# Altium footprint library Odrive.PcbLib: 40 footprints (part 2 of 3)
Each footprint in its own frame and in the unit in brackets; x right, y up, seen from the top. Pads: shape width x height; smd on the part's side, far side on the other; paste and mask are expansions set on the pad; w line width, h text height; cw(c..) or ccw(c..) is an arc to the next point about the centre after c.
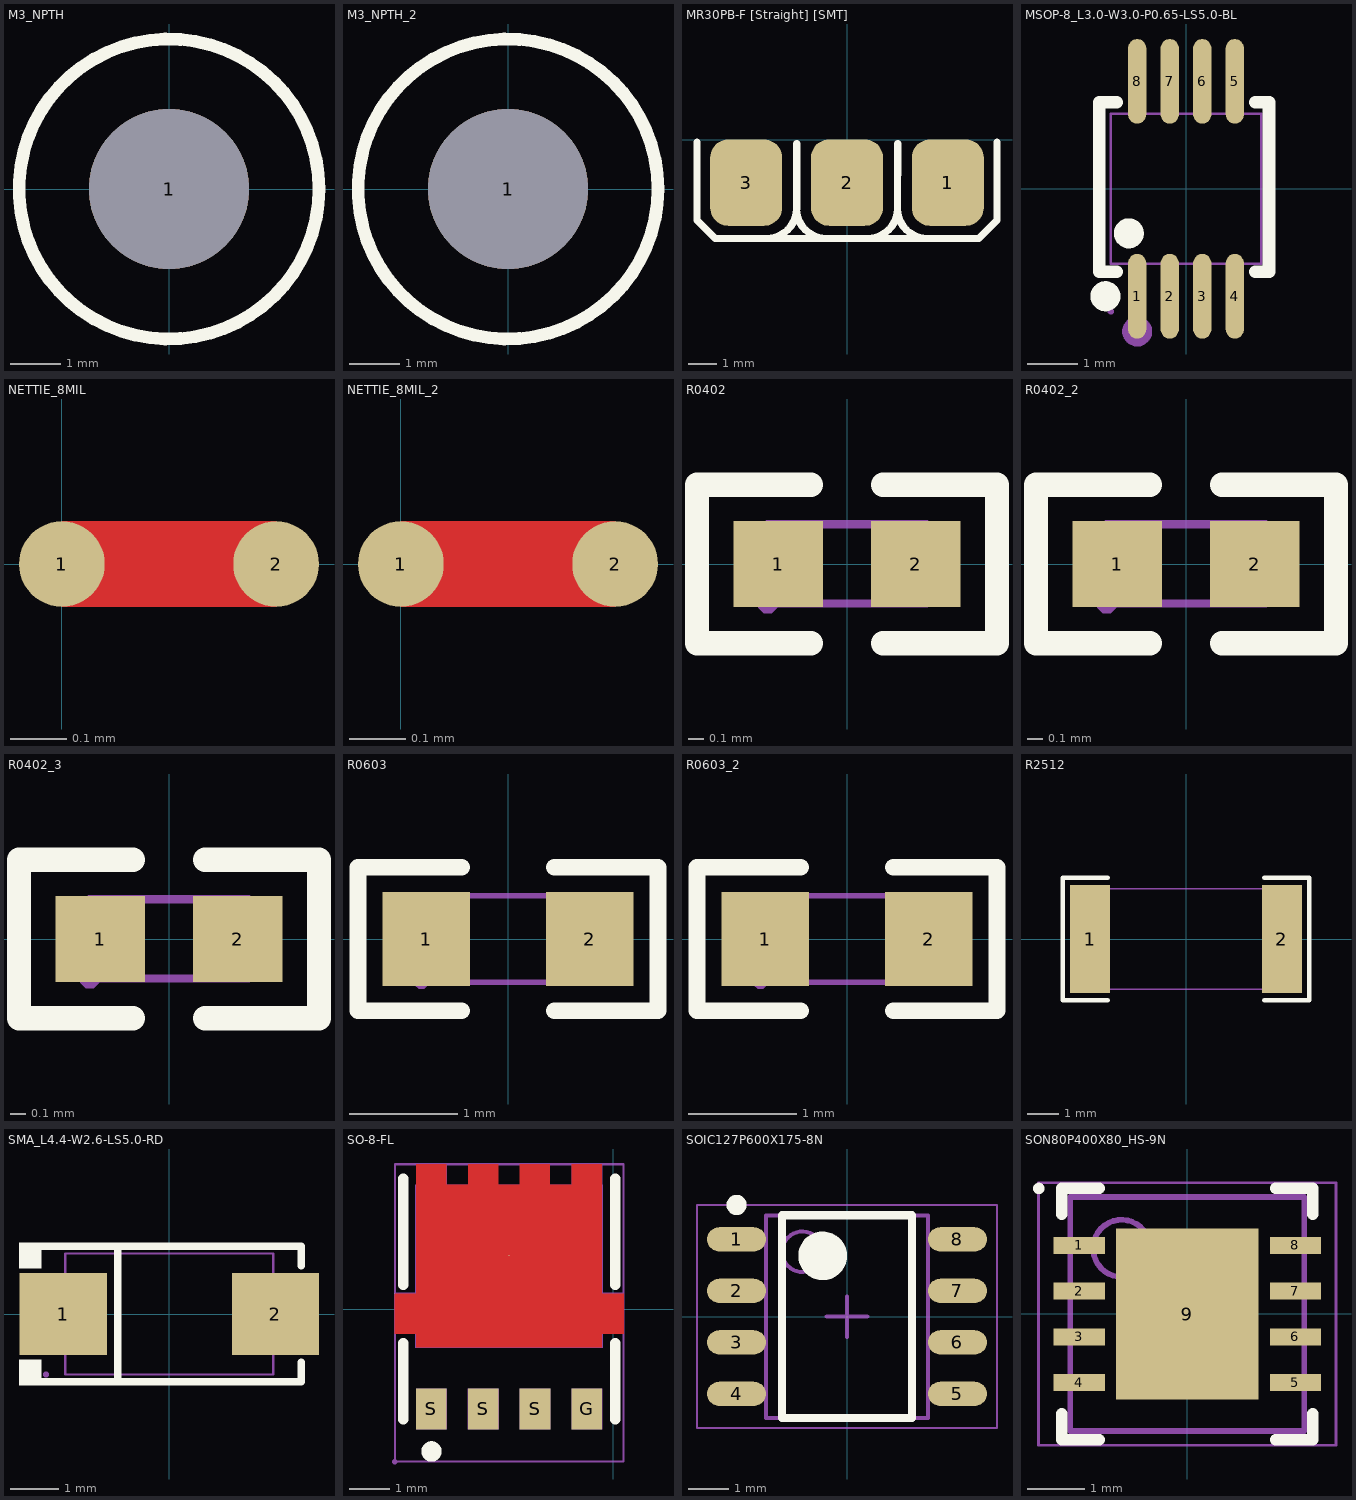
[diagram p1: the footprints below, top view; thin cyan lines are the x and y axes]

## M3_NPTH [mm] "Hole without copper"
pads (1):
  round 3.2 hole 3.2 unplated: 1(0,0)
Top Overlay:
  circle w0.254: c0,0 r3

## M3_NPTH_2 [mm]
pads (1):
  round 3.2 hole 3.2 unplated: 1(0,0)
Top Overlay:
  circle w0.254: c0,0 r3

## MR30PB-F [Straight] [SMT] [mm] "驱动器端"
height 8.4
pads (3):
  rrect50% 2.5x3 smd: 1(3.5,-1.489) 2(0,-1.489) 3(-3.5,-1.489)
Top Overlay:
  lines w0.254: -5.207,-0.076 -5.207,-2.794 -4.572,-3.429 4.572,-3.429 5.207,-2.794 5.207,-0.076 ; -2.787,-3.429 ccw(c-2.787,-2.394) -1.753,-2.394 ccw(c-0.718,-2.394) -0.718,-3.429 ; -1.749,-2.394 -1.746,-0.127 ; 0.718,-3.429 ccw(c0.718,-2.394) 1.753,-2.394 ccw(c2.787,-2.394) 2.787,-3.429 ; 1.756,-2.394 1.76,-0.127
3D body "asm0001_asm.stp": height 2.74, standoff -2.56, extent -5.944,-1.778 5.944,9.622

## MSOP-8_L3.0-W3.0-P0.65-LS5.0-BL [mm]
pads (8):
  oval 0.364x1.692 smd: 1(-0.975,-2.146) 2(-0.325,-2.146) 3(0.325,-2.146) 4(0.975,-2.146) 5(0.975,2.146) 6(0.325,2.146) 7(-0.325,2.146) 8(-0.975,2.146)
Top Overlay:
  circle w0.3: c-1.609,-2.146 r0.15
  circle w0.3: c-1.143,-0.889 r0.15
  lines w0.254: -1.73,1.724 -1.73,-1.652 -1.723,-1.658 -1.388,-1.658 ; -1.717,1.71 -1.697,1.73 -1.388,1.73 ; 1.388,-1.658 1.659,-1.658 1.659,1.73 1.388,1.73
Mechanical 6:
  circle w0.3: c-0.975,-2.85 r0.15
Mechanical 15:
  region: 0.82,1.86 0.82,1.49 1.13,1.49 1.13,1.86
  region: 0.82,2.45 0.82,1.85 1.13,1.85 1.13,2.45
  region: 0.17,1.86 0.17,1.49 0.48,1.49 0.48,1.86
  region: 0.17,2.45 0.17,1.85 0.48,1.85 0.48,2.45
  region: -0.48,1.86 -0.48,1.49 -0.17,1.49 -0.17,1.86
  region: -0.48,2.45 -0.48,1.85 -0.17,1.85 -0.17,2.45
  region: -1.13,1.86 -1.13,1.49 -0.82,1.49 -0.82,1.86
  region: -1.13,2.45 -1.13,1.85 -0.82,1.85 -0.82,2.45
  region: 0.82,-1.86 0.82,-1.49 1.13,-1.49 1.13,-1.86
  region: 0.82,-2.45 0.82,-1.85 1.13,-1.85 1.13,-2.45
  region: 0.17,-1.86 0.17,-1.49 0.48,-1.49 0.48,-1.86
  region: 0.17,-2.45 0.17,-1.85 0.48,-1.85 0.48,-2.45
  region: -0.48,-1.86 -0.48,-1.49 -0.17,-1.49 -0.17,-1.86
  region: -0.48,-2.45 -0.48,-1.85 -0.17,-1.85 -0.17,-2.45
  region: -1.13,-1.86 -1.13,-1.49 -0.82,-1.49 -0.82,-1.86
  region: -1.13,-2.45 -1.13,-1.85 -0.82,-1.85 -0.82,-2.45
  region: -1.44,-2.45 -1.44,-2.425 -1.475,-2.39 -1.525,-2.39 -1.56,-2.425 -1.56,-2.45 -1.56,-2.475 -1.525,-2.51 -1.475,-2.51 -1.44,-2.475
  lines w0.051: -1.5,-1.5 1.5,-1.5 1.5,1.5 -1.5,1.5 -1.5,-1.5
3D body "3d_pcb1_2023-12-04_asm.stp": height 1, standoff 0, extent -1.527,-2.5 1.473,2.5

## NETTIE_8MIL [mil]
height 78.74
pads (2):
  round 6 smd paste-78.74 mask+0: 1(0,0) 2(15,0)
Top Layer:
  region: 0,3 15,3 15,-3 0,-3

## NETTIE_8MIL_2 [mil]
pads (2):
  round 6 smd paste-78.74 mask+0: 1(0,0) 2(15,0)
Top Layer:
  region: 0,3 15,3 15,-3 0,-3

## R0402 [mm]
height 2
pads (2):
  rect 0.566x0.54 smd mask+0.051: 1(-0.433,0) 2(0.433,0)
Top Overlay:
  lines w0.152: -0.226,-0.499 -0.944,-0.499 -0.944,0.499 -0.226,0.499 ; 0.226,-0.499 0.944,-0.499 0.944,0.499 0.226,0.499
Top Paste:
  region: -0.135,-0.23 -0.135,0.23 -0.175,0.27 -0.676,0.27 -0.716,0.23 -0.716,-0.23 -0.676,-0.27 -0.175,-0.27
  region: 0.135,-0.23 0.135,0.23 0.175,0.27 0.676,0.27 0.716,0.23 0.716,-0.23 0.676,-0.27 0.175,-0.27
Mechanical 15:
  region: -0.249,0.25 -0.249,-0.25 -0.499,-0.25 -0.499,0.25
  region: 0.251,-0.25 0.251,0.25 0.501,0.25 0.501,-0.25
  region: -0.44,-0.25 -0.44,-0.225 -0.475,-0.19 -0.525,-0.19 -0.56,-0.225 -0.56,-0.25 -0.56,-0.275 -0.525,-0.31 -0.475,-0.31 -0.44,-0.275
  lines w0.051: -0.5,-0.25 0.5,-0.25 0.5,0.25 -0.5,0.25 -0.5,-0.25
3D body "R0402.step": height 0.5, standoff 0, extent -0.5,-0.246 0.5,0.254

## R0402_2 [mm]
pads (2):
  rect 0.566x0.54 smd mask+0.051: 1(-0.433,0) 2(0.433,0)
Top Overlay:
  lines w0.152: -0.226,-0.499 -0.944,-0.499 -0.944,0.499 -0.226,0.499 ; 0.226,-0.499 0.944,-0.499 0.944,0.499 0.226,0.499
Top Paste:
  region: -0.135,-0.23 -0.135,0.23 -0.175,0.27 -0.676,0.27 -0.716,0.23 -0.716,-0.23 -0.676,-0.27 -0.175,-0.27
  region: 0.135,-0.23 0.135,0.23 0.175,0.27 0.676,0.27 0.716,0.23 0.716,-0.23 0.676,-0.27 0.175,-0.27
Mechanical 15:
  region: -0.249,0.25 -0.249,-0.25 -0.499,-0.25 -0.499,0.25
  region: 0.251,-0.25 0.251,0.25 0.501,0.25 0.501,-0.25
  region: -0.44,-0.25 -0.44,-0.225 -0.475,-0.19 -0.525,-0.19 -0.56,-0.225 -0.56,-0.25 -0.56,-0.275 -0.525,-0.31 -0.475,-0.31 -0.44,-0.275
  lines w0.051: -0.5,-0.25 0.5,-0.25 0.5,0.25 -0.5,0.25 -0.5,-0.25
3D body "R0402.step": height 0.5, standoff 0, extent -0.5,-0.246 0.5,0.254

## R0402_3 [mm]
pads (2):
  rect 0.566x0.54 smd mask+0.051: 1(-0.433,0) 2(0.433,0)
Top Overlay:
  lines w0.152: -0.226,-0.499 -0.944,-0.499 -0.944,0.499 -0.226,0.499 ; 0.226,-0.499 0.944,-0.499 0.944,0.499 0.226,0.499
Top Paste:
  region: 0.135,-0.23 0.135,0.23 0.175,0.27 0.676,0.27 0.716,0.23 0.716,-0.23 0.676,-0.27 0.175,-0.27
  region: -0.135,-0.23 -0.135,0.23 -0.175,0.27 -0.676,0.27 -0.716,0.23 -0.716,-0.23 -0.676,-0.27 -0.175,-0.27
Mechanical 15:
  region: 0.251,-0.25 0.251,0.25 0.501,0.25 0.501,-0.25
  region: -0.249,0.25 -0.249,-0.25 -0.499,-0.25 -0.499,0.25
  region: -0.44,-0.25 -0.44,-0.225 -0.475,-0.19 -0.525,-0.19 -0.56,-0.225 -0.56,-0.25 -0.56,-0.275 -0.525,-0.31 -0.475,-0.31 -0.44,-0.275
  lines w0.051: -0.5,-0.25 -0.5,0.25 0.5,0.25 0.5,-0.25 -0.5,-0.25
3D body "R0402.step": height 0.5, standoff 0, extent -0.5,-0.246 0.5,0.254

## R0603 [mm]
pads (2):
  rect 0.806x0.864 smd mask+0.051: 1(-0.753,0) 2(0.753,0)
Top Overlay:
  lines w0.152: -0.426,-0.661 -1.385,-0.661 -1.385,0.661 -0.426,0.661 ; 0.426,-0.661 1.385,-0.661 1.385,0.661 0.426,0.661
Top Paste:
  region: 1.195,0.45 0.395,0.45 0.345,0.4 0.345,0.172 0.715,0.172 0.715,-0.158 0.345,-0.158 0.345,-0.4 0.395,-0.45 1.195,-0.45 1.245,-0.4 1.245,0.4
  region: -0.355,0.4 -0.355,0.172 -0.735,0.172 -0.735,-0.158 -0.355,-0.158 -0.355,-0.4 -0.405,-0.45 -1.195,-0.45 -1.245,-0.4 -1.245,0.4 -1.195,0.45 -0.405,0.45
Mechanical 15:
  region: -0.8,-0.4 -0.8,0.4 -0.5,0.4 -0.5,-0.4
  region: 0.8,-0.4 0.8,0.4 0.5,0.4 0.5,-0.4
  region: -0.74,-0.4 -0.74,-0.375 -0.775,-0.34 -0.825,-0.34 -0.86,-0.375 -0.86,-0.4 -0.86,-0.425 -0.825,-0.46 -0.775,-0.46 -0.74,-0.425
  lines w0.051: -0.8,-0.4 -0.8,0.4 0.8,0.4 0.8,-0.4 -0.8,-0.4
3D body "R0603.step": height 0.45, standoff 0, extent -0.839,-0.398 0.781,0.412

## R0603_2 [mm]
pads (2):
  rect 0.806x0.864 smd mask+0.051: 1(-0.753,0) 2(0.753,0)
Top Overlay:
  lines w0.152: -0.426,-0.661 -1.385,-0.661 -1.385,0.661 -0.426,0.661 ; 0.426,-0.661 1.385,-0.661 1.385,0.661 0.426,0.661
Top Paste:
  region: -0.355,0.4 -0.355,0.172 -0.735,0.172 -0.735,-0.158 -0.355,-0.158 -0.355,-0.4 -0.405,-0.45 -1.195,-0.45 -1.245,-0.4 -1.245,0.4 -1.195,0.45 -0.405,0.45
  region: 1.195,0.45 0.395,0.45 0.345,0.4 0.345,0.172 0.715,0.172 0.715,-0.158 0.345,-0.158 0.345,-0.4 0.395,-0.45 1.195,-0.45 1.245,-0.4 1.245,0.4
Mechanical 15:
  region: 0.8,-0.4 0.8,0.4 0.5,0.4 0.5,-0.4
  region: -0.8,-0.4 -0.8,0.4 -0.5,0.4 -0.5,-0.4
  region: -0.74,-0.4 -0.74,-0.375 -0.775,-0.34 -0.825,-0.34 -0.86,-0.375 -0.86,-0.4 -0.86,-0.425 -0.825,-0.46 -0.775,-0.46 -0.74,-0.425
  lines w0.051: -0.8,-0.4 0.8,-0.4 0.8,0.4 -0.8,0.4 -0.8,-0.4
3D body "R0603.step": height 0.45, standoff 0, extent -0.839,-0.398 0.781,0.412

## R2512 [mm]
pads (2):
  rect 1.283x3.456 smd paste-100 mask+0.051: 1(-3.066,0) 2(3.066,0)
Top Overlay:
  lines w0.152: -2.501,-1.957 -3.936,-1.957 -3.936,1.957 -2.501,1.957 ; 2.501,-1.957 3.936,-1.957 3.936,1.957 2.501,1.957
Top Paste:
  region: -2.425,-1.628 -2.425,-0.688 -2.525,-0.588 -2.761,-0.588 -2.861,-0.488 -2.861,0.488 -2.761,0.588 -2.525,0.588 -2.425,0.688 -2.425,1.628 -2.525,1.728 -3.608,1.728 -3.708,1.628 -3.708,-1.628 -3.608,-1.728 -2.525,-1.728
  region: 2.425,-1.628 2.425,-0.688 2.525,-0.588 2.761,-0.588 2.861,-0.488 2.861,0.488 2.761,0.588 2.525,0.588 2.425,0.688 2.425,1.628 2.525,1.728 3.608,1.728 3.708,1.628 3.708,-1.628 3.608,-1.728 2.525,-1.728
Mechanical 15:
  region: 2.55,-1.6 2.55,1.6 3.15,1.6 3.15,-1.6
  region: -3.15,-1.6 -3.15,1.6 -2.55,1.6 -2.55,-1.6
  region: -3.115,-1.6 -3.115,-1.575 -3.15,-1.54 -3.2,-1.54 -3.235,-1.575 -3.235,-1.6 -3.235,-1.625 -3.2,-1.66 -3.15,-1.66 -3.115,-1.625
  lines w0.051: -3.15,-1.6 3.15,-1.6 3.15,1.6 -3.15,1.6 -3.15,-1.6
3D body "3D_PCB1_2023-04-05.step": height 0.61, standoff 0, extent -3.15,-1.6 3.15,1.6

## SMA_L4.4-W2.6-LS5.0-RD [mm]
pads (2):
  rect 1.8x1.7 smd paste+0 mask+0.051: 1(-2.192,0) 2(2.192,0)
Top Overlay:
  region: -2.65,1.477 -2.65,0.949 -3.107,0.949 -3.107,1.477
  region: -2.65,-1.477 -2.65,-0.949 -3.107,-0.949 -3.107,-1.477
  lines w0.152: -2.726,-1.401 2.726,-1.401 2.726,-1 ; -2.726,1.401 2.726,1.401 2.726,1 ; -1.07,-1.401 -1.07,1.401
Mechanical 6:
  region: -2.451,-0.099 -2.451,0.099 -1.656,0.099 -1.656,-0.099
  region: 2.451,-0.099 2.451,0.099 1.656,0.099 1.656,-0.099
  region: 2.153,-0.663 2.153,0.663 1.954,0.663 1.954,-0.663
Mechanical 15:
  region: -2.55,-1.19 -2.525,-1.19 -2.49,-1.225 -2.49,-1.275 -2.525,-1.31 -2.55,-1.31 -2.575,-1.31 -2.61,-1.275 -2.61,-1.225 -2.575,-1.19 -2.55,-1.19
  region: -1.35,0.725 -1.35,-0.725 -2.55,-0.725 -2.55,0.725
  region: 1.35,-0.725 1.35,0.725 2.55,0.725 2.55,-0.725
  lines w0.051: -2.15,-1.25 -2.15,1.25 2.15,1.25 2.15,-1.25 -2.15,-1.25
3D body "3D_PCB1_2023-08-16.step": height 2.1, standoff 0, extent -2.6,-1.245 2.6,1.255

## SO-8-FL [mm]
pads (5):
  round 0.025 smd: D(-2.553,1.308)
  rect 0.75x1 smd paste+0 mask+0.051: G(-0.645,-2.45) S(-4.455,-2.45) S(-3.185,-2.45) S(-1.915,-2.45)
Top Layer:
  region: -4.826,3.556 -4.826,0.381 -5.359,0.381 -5.359,-0.61 -4.826,-0.61 -4.826,-0.94 -0.279,-0.94 -0.279,-0.61 0.254,-0.61 0.254,0.381 -0.279,0.381 -0.279,3.556 -1.016,3.556 -1.016,3.05 -1.549,3.05 -1.549,3.556 -2.286,3.556 -2.286,3.05 -2.288,3.048 -2.819,3.048 -2.819,3.556 -3.556,3.556 -3.556,3.05 -4.089,3.05 -4.089,3.556
Top Overlay:
  lines w0.249: -4.455,-3.366 ccw(c-4.454,-3.49) -4.452,-3.366
  lines w0.254: -5.15,-2.702 -5.15,-0.833 ; -5.15,0.6 -5.15,3.2 ; 0.05,-2.702 0.05,-0.833 ; 0.05,0.6 0.05,3.2
Mechanical 15:
  region: -5.35,-0.6 -5.35,0.4 -4.85,0.4 -4.85,-0.6
  region: -0.25,-0.6 -0.25,0.4 0.25,0.4 0.25,-0.6
  region: -1.02,2.55 -1.02,3.55 -0.27,3.55 -0.27,2.55
  region: -4.83,2.55 -4.83,3.55 -4.08,3.55 -4.08,2.55
  region: -1.02,-2.95 -1.02,-1.95 -0.27,-1.95 -0.27,-2.95
  region: -2.29,-2.95 -2.29,-1.95 -1.54,-1.95 -1.54,-2.95
  region: -4.83,-2.95 -4.83,-1.95 -4.08,-1.95 -4.08,-2.95
  region: -3.56,-2.95 -3.56,-1.95 -2.81,-1.95 -2.81,-2.95
  region: -4.85,-0.95 -4.85,3.05 -0.25,3.05 -0.25,-0.95
  region: -5.29,-3.739 -5.29,-3.714 -5.325,-3.679 -5.375,-3.679 -5.41,-3.714 -5.41,-3.739 -5.41,-3.764 -5.375,-3.799 -5.325,-3.799 -5.29,-3.764
  lines w0.051: -5.35,-3.739 0.25,-3.739 0.25,3.55 -5.35,3.55 -5.35,-3.739
3D body "User Library-DFN5x6_SO8FL.STEP": height 1.13, standoff 0, extent -5.115,-2.769 0.035,3.381

## SOIC127P600X175-8N [mm] "SOIC, 8-Leads, Body 4.90x3.90mm, Pitch 1.27mm, IPC Medium Density"
height 1.75
pads (8):
  oval 1.45x0.6 smd: 1(-2.725,1.905) 2(-2.725,0.635) 3(-2.725,-0.635) 4(-2.725,-1.905) 5(2.725,-1.905) 6(2.725,-0.635) 7(2.725,0.635) 8(2.725,1.905)
Top Overlay:
  circle w0.6: c-0.6,1.5 r0.3
  circle w0.25: c-2.725,2.755 r0.125
  lines w0.2: -1.6,-2.5 1.6,-2.5 1.6,2.5 -1.6,2.5 -1.6,-2.5
Mechanical 13:
  circle w0.1: c-1.1,1.6 r0.5
  lines w0.1: -2,-2.5 2,-2.5 2,2.5 -2,2.5 -2,-2.5
Mechanical 15:
  lines w0.05: -3.7,-2.75 3.7,-2.75 3.7,2.75 -3.7,2.75 -3.7,-2.75
  lines w0.1: -0.5,0 0.5,0 ; 0,-0.5 0,0.5
3D body: height 1.75, standoff 0.1, extent -2,-2.5 2,2.5

## SON80P400X80_HS-9N [mm] "SON, 8-Leads, Body 4.00x4.00mm, Pitch 0.80mm, Thermal Pad 3.00x2.49mm, IPC Medium Density"
height 0.8
pads (9):
  rect 0.9x0.3 smd mask+0: 1(-1.895,1.2) 2(-1.895,0.4) 3(-1.895,-0.4) 4(-1.895,-1.2) 5(1.895,-1.2) 6(1.895,-0.4) 7(1.895,0.4) 8(1.895,1.2)
  rect 2.49x3 smd paste-1.245 mask+0: 9(0,0)
Top Overlay:
  circle w0.1: c-2.6,2.2 r0.05
  lines w0.2: -2.2,-1.75 -2.2,-2.2 -1.545,-2.2 ; -2.2,1.75 -2.2,2.2 -1.545,2.2 ; 1.545,-2.2 2.2,-2.2 2.2,-1.75 ; 1.545,2.2 2.2,2.2 2.2,1.75
Top Paste:
  rectangle: 0.1,0.1 1.15,1.4
  rectangle: 0.1,-1.4 1.15,-0.1
  rectangle: -1.15,0.1 -0.1,1.4
  rectangle: -1.15,-1.4 -0.1,-0.1
Mechanical 13:
  circle w0.1: c-1.15,1.15 r0.5
  lines w0.1: -2.05,-2.05 2.05,-2.05 2.05,2.05 -2.05,2.05 -2.05,-2.05
Mechanical 15:
  lines w0.05: -2.605,-2.3 2.605,-2.3 2.605,2.3 -2.605,2.3 -2.605,-2.3
  lines w0.1: -0.5,0 0.5,0 ; 0,-0.5 0,0.5
3D body: height 0.8, standoff 0, extent -2.05,-2.05 2.05,2.05